# Altium footprint library PinHeader.PcbLib: 118 footprints (part 2 of 8)
Each footprint in its own frame and in the unit in brackets; x right, y up, seen from the top. Pads: shape width x height; smd on the part's side, far side on the other; paste and mask are expansions set on the pad; w line width, h text height; cw(c..) or ccw(c..) is an arc to the next point about the centre after c.
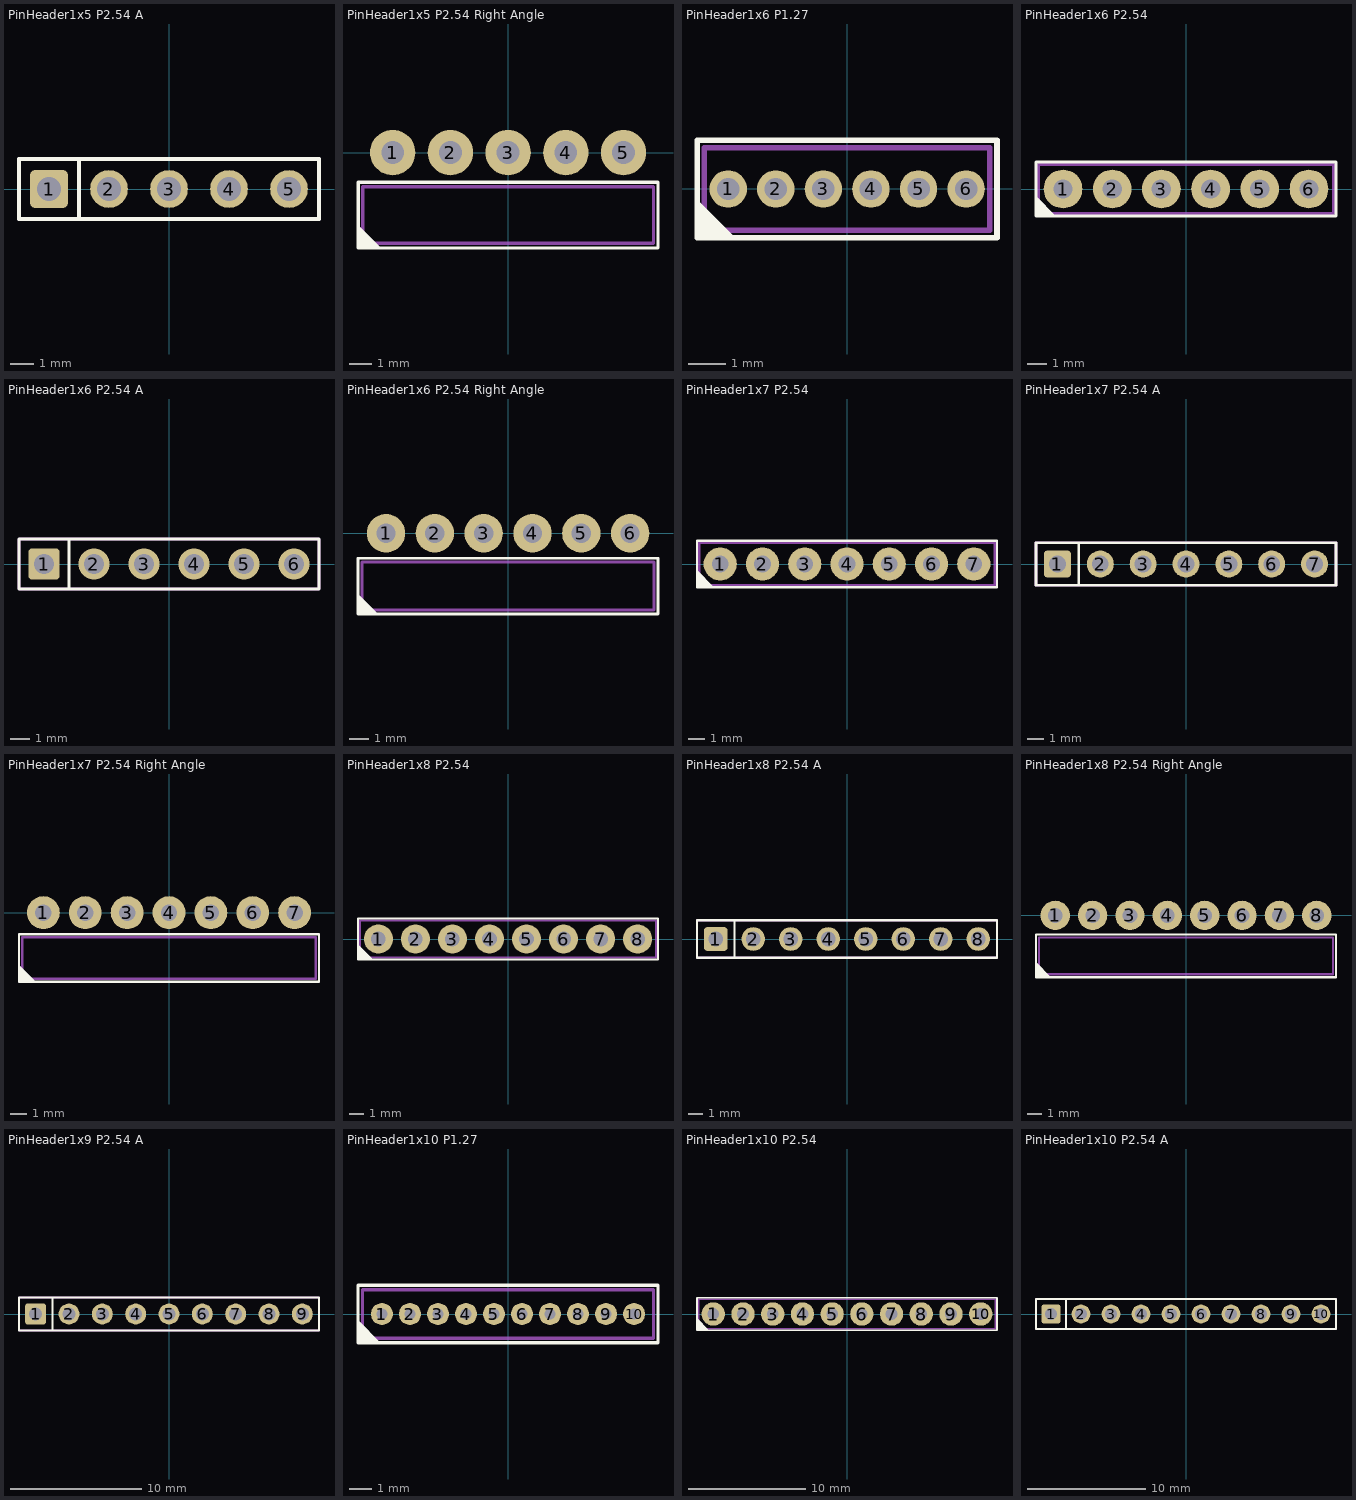
[diagram p1: the footprints below, top view; thin cyan lines are the x and y axes]

## PinHeader1x5 P2.54 A [mm] "Plug connector"
height 8.5
pads (5):
  rrect25% 1.6x1.6 hole 1: 1(-5.08,0)
  round 1.6 hole 1: 2(-2.54,0) 3(0,0) 4(2.54,0) 5(5.08,0)
Top Overlay:
  lines w0.15: -3.81,-1.27 -3.81,1.27 ; -6.35,-1.27 6.35,-1.27 6.35,1.27 -6.35,1.27 -6.35,-1.27
Mechanical 13:
  lines w0.15: -6.35,-1.27 -6.35,1.27 6.35,1.27 6.35,-1.27 -6.35,-1.27
3D body: height 8.5, standoff 2.6, extent -5.397,-0.318 5.397,0.318
3D body: height 2.5, standoff 0.1, extent -6.35,-1.27 6.35,1.27

## PinHeader1x5 P2.54 Right Angle [mm] "Plug connector"
height 2.4
pads (5):
  round 2 hole 1: 1(-5.08,0) 2(-2.54,0) 3(0,0) 4(2.54,0) 5(5.08,0)
Top Overlay:
  region: -6.608,-4.208 -6.608,-3.192 -5.592,-4.208
  lines w0.15: -6.6,-4.2 -6.6,-1.3 6.6,-1.3 6.6,-4.2 -6.6,-4.2
Mechanical 13:
  lines w0.15: -6.4,-4 -6.4,-1.5 6.4,-1.5 6.4,-4 -6.4,-4
3D body: height 1.55, standoff -2.5, extent 2.24,-0.3 2.84,0.3
3D body: height 1.55, standoff 0.95, extent 2.24,-10 2.84,0
3D body: height 1.55, standoff 0.95, extent 4.78,-10 5.38,0
3D body: height 1.55, standoff -2.5, extent 4.78,-0.3 5.38,0.3
3D body: height 1.55, standoff -2.5, extent -0.3,-0.3 0.3,0.3
3D body: height 1.55, standoff 0.95, extent -0.3,-10 0.3,0
3D body: height 1.55, standoff -2.5, extent -5.38,-0.3 -4.78,0.3
3D body: height 2.4, standoff 0, extent -6.4,-4 6.4,-1.5
3D body: height 1.55, standoff 0.95, extent -5.38,-10 -4.78,0
3D body: height 1.55, standoff 0.95, extent -2.84,-10 -2.24,0
3D body: height 1.55, standoff -2.5, extent -2.84,-0.3 -2.24,0.3

## PinHeader1x6 P1.27 [mm] "Plug connector"
height 4
pads (6):
  round 1 hole 0.6: 1(-3.175,0) 2(-1.905,0) 3(-0.635,0) 4(0.635,0) 5(1.905,0) 6(3.175,0)
Top Overlay:
  region: -4.008,-1.3 -4.008,-0.284 -2.992,-1.3
  lines w0.15: -4,-1.3 4,-1.3 4,1.3 -4,1.3 -4,-1.3
Mechanical 13:
  lines w0.15: -3.81,-1.1 -3.81,1.1 3.811,1.1 3.811,-1.1 -3.81,-1.1
3D body: height 1, standoff 0, extent -3.81,-1.1 3.811,1.1
3D body: height 4, standoff -2.3, extent -3.375,-0.2 -2.975,0.2
3D body: height 4, standoff -2.3, extent -2.105,-0.2 -1.705,0.2
3D body: height 4, standoff -2.3, extent -0.835,-0.2 -0.435,0.2
3D body: height 4, standoff -2.3, extent 0.435,-0.2 0.835,0.2
3D body: height 4, standoff -2.3, extent 1.705,-0.2 2.105,0.2
3D body: height 4, standoff -2.3, extent 2.975,-0.2 3.375,0.2

## PinHeader1x6 P2.54 [mm] "Plug connector"
height 8.5
pads (6):
  round 2 hole 1: 1(-6.35,0) 2(-3.81,0) 3(-1.27,0) 4(1.27,0) 5(3.81,0) 6(6.35,0)
Top Overlay:
  region: -7.747,-1.397 -7.747,-0.381 -6.731,-1.397
  lines w0.15: -7.747,-1.397 -7.747,1.397 7.747,1.397 7.747,-1.397 -7.747,-1.397
Mechanical 13:
  lines w0.15: -7.62,-1.27 7.62,-1.27 7.62,1.27 -7.62,1.27 -7.62,-1.27
3D body: height 2.54, standoff 0, extent -7.62,-1.27 7.62,1.27
3D body: height 8.5, standoff -2.5, extent -6.73,-0.38 -5.97,0.38
3D body: height 8.5, standoff -2.5, extent 3.43,-0.38 4.191,0.38
3D body: height 8.5, standoff -2.5, extent -4.19,-0.38 -3.43,0.38
3D body: height 8.5, standoff -2.5, extent -1.65,-0.38 -0.889,0.38
3D body: height 8.5, standoff -2.5, extent 0.89,-0.38 1.651,0.38
3D body: height 8.5, standoff -2.5, extent 5.97,-0.38 6.731,0.38

## PinHeader1x6 P2.54 A [mm] "Plug connector"
height 8.5
pads (6):
  rrect25% 1.6x1.6 hole 1: 1(-6.35,0)
  round 1.6 hole 1: 2(-3.81,0) 3(-1.27,0) 4(1.27,0) 5(3.81,0) 6(6.35,0)
Top Overlay:
  lines w0.15: -5.08,-1.27 -5.08,1.27 ; -7.62,-1.27 7.62,-1.27 7.62,1.27 -7.62,1.27 -7.62,-1.27
Mechanical 13:
  lines w0.15: -7.62,-1.27 -7.62,1.27 7.62,1.27 7.62,-1.27 -7.62,-1.27
3D body: height 8.5, standoff 2.6, extent -6.667,-0.318 6.667,0.318
3D body: height 2.5, standoff 0.1, extent -7.62,-1.27 7.62,1.27

## PinHeader1x6 P2.54 Right Angle [mm] "Plug connector"
height 2.4
pads (6):
  round 2 hole 1: 1(-6.35,0) 2(-3.81,0) 3(-1.27,0) 4(1.27,0) 5(3.81,0) 6(6.35,0)
Top Overlay:
  region: -7.808,-4.2 -7.808,-3.184 -6.792,-4.2
  lines w0.15: -7.8,-4.2 7.8,-4.2 7.8,-1.3 -7.8,-1.3 -7.8,-4.2
Mechanical 13:
  lines w0.15: -7.6,-4 7.6,-4 7.6,-1.5 -7.6,-1.5 -7.6,-4
3D body: height 1.55, standoff -2.5, extent 0.97,-0.3 1.57,0.3
3D body: height 1.55, standoff 0.95, extent 0.97,-10 1.57,0
3D body: height 1.55, standoff -2.5, extent 6.05,-0.3 6.65,0.3
3D body: height 1.55, standoff 0.95, extent 6.05,-10 6.65,0
3D body: height 1.55, standoff 0.95, extent 3.51,-10 4.11,0
3D body: height 1.55, standoff -2.5, extent 3.51,-0.3 4.11,0.3
3D body: height 1.55, standoff -2.5, extent -4.11,-0.3 -3.51,0.3
3D body: height 1.55, standoff 0.95, extent -4.11,-10 -3.51,0
3D body: height 1.55, standoff 0.95, extent -6.65,-10 -6.05,0
3D body: height 2.4, standoff 0, extent -7.6,-4 7.6,-1.5
3D body: height 1.55, standoff -2.5, extent -6.65,-0.3 -6.05,0.3
3D body: height 1.55, standoff 0.95, extent -1.57,-10 -0.97,0
3D body: height 1.55, standoff -2.5, extent -1.57,-0.3 -0.97,0.3

## PinHeader1x7 P2.54 [mm] "Plug connector"
height 8.5
pads (7):
  round 2 hole 1: 1(-7.62,0) 2(-5.08,0) 3(-2.54,0) 4(0,0) 5(2.54,0) 6(5.08,0) 7(7.62,0)
Top Overlay:
  region: -9.017,-1.397 -9.017,-0.381 -8.001,-1.397
  lines w0.15: -9.017,-1.397 -9.017,1.397 9.017,1.397 9.017,-1.397 -9.017,-1.397
Mechanical 13:
  lines w0.15: -8.89,-1.27 8.89,-1.27 8.89,1.27 -8.89,1.27 -8.89,-1.27
3D body: height 8.5, standoff -2.5, extent 7.24,-0.38 8.001,0.38
3D body: height 2.54, standoff 0, extent -8.89,-1.27 8.89,1.27
3D body: height 8.5, standoff -2.5, extent -8,-0.38 -7.24,0.38
3D body: height 8.5, standoff -2.5, extent 2.16,-0.38 2.921,0.38
3D body: height 8.5, standoff -2.5, extent -5.46,-0.38 -4.7,0.38
3D body: height 8.5, standoff -2.5, extent -2.92,-0.38 -2.159,0.38
3D body: height 8.5, standoff -2.5, extent -0.38,-0.38 0.381,0.381
3D body: height 8.5, standoff -2.5, extent 4.7,-0.38 5.461,0.38

## PinHeader1x7 P2.54 A [mm] "Plug connector"
height 8.5
pads (7):
  rrect25% 1.6x1.6 hole 1: 1(-7.62,0)
  round 1.6 hole 1: 2(-5.08,0) 3(-2.54,0) 4(0,0) 5(2.54,0) 6(5.08,0) 7(7.62,0)
Top Overlay:
  lines w0.15: -6.35,-1.27 -6.35,1.27 ; -8.89,-1.27 -8.89,1.27 8.89,1.27 8.89,-1.27 -8.89,-1.27
Mechanical 13:
  lines w0.15: -8.89,-1.27 8.89,-1.27 8.89,1.27 -8.89,1.27 -8.89,-1.27
3D body: height 2.5, standoff 0.1, extent -8.89,-1.27 8.89,1.27
3D body: height 8.5, standoff 2.6, extent -7.938,-0.318 7.938,0.318

## PinHeader1x7 P2.54 Right Angle [mm] "Plug connector"
height 2.4
pads (7):
  round 2 hole 1: 1(-7.62,0) 2(-5.08,0) 3(-2.54,0) 4(0,0) 5(2.54,0) 6(5.08,0) 7(7.62,0)
Top Overlay:
  region: -9.1,-4.2 -9.1,-3.184 -8.084,-4.2
  lines w0.15: -9.1,-4.2 9.1,-4.2 9.1,-1.3 -9.1,-1.3 -9.1,-4.2
Mechanical 13:
  lines w0.15: -8.9,-4 8.9,-4 8.9,-1.5 -8.9,-1.5 -8.9,-4
3D body: height 1.55, standoff -2.5, extent 2.24,-0.3 2.84,0.3
3D body: height 1.55, standoff 0.95, extent 2.24,-10 2.84,0
3D body: height 1.55, standoff -2.5, extent 7.32,-0.3 7.92,0.3
3D body: height 1.55, standoff 0.95, extent 7.32,-10 7.92,0
3D body: height 1.55, standoff 0.95, extent 4.78,-10 5.38,0
3D body: height 1.55, standoff -2.5, extent 4.78,-0.3 5.38,0.3
3D body: height 1.55, standoff -2.5, extent -0.3,-0.3 0.3,0.3
3D body: height 1.55, standoff 0.95, extent -0.3,-10 0.3,0
3D body: height 1.55, standoff -2.5, extent -5.38,-0.3 -4.78,0.3
3D body: height 1.55, standoff 0.95, extent -5.38,-10 -4.78,0
3D body: height 1.55, standoff 0.95, extent -7.92,-10 -7.32,0
3D body: height 2.4, standoff 0, extent -8.9,-4 8.9,-1.5
3D body: height 1.55, standoff -2.5, extent -7.92,-0.3 -7.32,0.3
3D body: height 1.55, standoff 0.95, extent -2.84,-10 -2.24,0
3D body: height 1.55, standoff -2.5, extent -2.84,-0.3 -2.24,0.3

## PinHeader1x8 P2.54 [mm] "Plug connector"
height 8.5
pads (8):
  round 2 hole 1: 1(-8.89,0) 2(-6.35,0) 3(-3.81,0) 4(-1.27,0) 5(1.27,0) 6(3.81,0) 7(6.35,0) 8(8.89,0)
Top Overlay:
  region: -10.287,-1.397 -10.287,-0.381 -9.271,-1.397
  lines w0.15: -10.287,-1.397 10.287,-1.397 10.287,1.397 -10.287,1.397 -10.287,-1.397
Mechanical 13:
  lines w0.15: -10.16,-1.27 -10.16,1.27 10.16,1.27 10.16,-1.27 -10.16,-1.27
3D body: height 8.5, standoff -2.5, extent 3.43,-0.38 4.191,0.38
3D body: height 8.5, standoff -2.5, extent -1.65,-0.38 -0.889,0.38
3D body: height 8.5, standoff -2.5, extent -4.19,-0.38 -3.429,0.38
3D body: height 8.5, standoff -2.5, extent -6.73,-0.38 -5.97,0.38
3D body: height 8.5, standoff -2.5, extent 0.89,-0.38 1.651,0.38
3D body: height 8.5, standoff -2.5, extent -9.27,-0.38 -8.51,0.38
3D body: height 2.54, standoff 0, extent -10.16,-1.27 10.16,1.27
3D body: height 8.5, standoff -2.5, extent 5.97,-0.38 6.731,0.38
3D body: height 8.5, standoff -2.5, extent 8.51,-0.38 9.271,0.38

## PinHeader1x8 P2.54 A [mm] "Plug connector"
height 8.5
pads (8):
  rrect25% 1.6x1.6 hole 1: 1(-8.89,0)
  round 1.6 hole 1: 2(-6.35,0) 3(-3.81,0) 4(-1.27,0) 5(1.27,0) 6(3.81,0) 7(6.35,0) 8(8.89,0)
Top Overlay:
  lines w0.15: -7.62,-1.27 -7.62,1.27 ; -10.16,-1.27 -10.16,1.27 10.16,1.27 10.16,-1.27 -10.16,-1.27
Mechanical 13:
  lines w0.15: -10.16,-1.27 10.16,-1.27 10.16,1.27 -10.16,1.27 -10.16,-1.27
3D body: height 2.5, standoff 0.1, extent -10.16,-1.27 10.16,1.27
3D body: height 8.5, standoff 2.6, extent -9.207,-0.318 9.207,0.318

## PinHeader1x8 P2.54 Right Angle [mm] "Plug connector"
height 2.4
pads (8):
  round 2 hole 1: 1(-8.89,0) 2(-6.35,0) 3(-3.81,0) 4(-1.27,0) 5(1.27,0) 6(3.81,0) 7(6.35,0) 8(8.89,0)
Top Overlay:
  region: -10.2,-4.208 -10.2,-3.192 -9.184,-4.208
  lines w0.15: -10.2,-4.2 -10.2,-1.3 10.2,-1.3 10.2,-4.2 -10.2,-4.2
Mechanical 13:
  lines w0.15: -10,-4 -10,-1.5 10,-1.5 10,-4 -10,-4
3D body: height 1.55, standoff -2.5, extent -4.11,-0.3 -3.51,0.3
3D body: height 1.55, standoff 0.95, extent -4.11,-10 -3.51,0
3D body: height 1.55, standoff -2.5, extent -9.19,-0.3 -8.59,0.3
3D body: height 2.4, standoff 0, extent -10,-4 10,-1.5
3D body: height 1.55, standoff 0.95, extent -9.19,-10 -8.59,0
3D body: height 1.55, standoff 0.95, extent -6.65,-10 -6.05,0
3D body: height 1.55, standoff -2.5, extent -6.65,-0.3 -6.05,0.3
3D body: height 1.55, standoff -2.5, extent 0.97,-0.3 1.57,0.3
3D body: height 1.55, standoff 0.95, extent 0.97,-10 1.57,0
3D body: height 1.55, standoff 0.95, extent 3.51,-10 4.11,0
3D body: height 1.55, standoff -2.5, extent 3.51,-0.3 4.11,0.3
3D body: height 1.55, standoff 0.95, extent -1.57,-10 -0.97,0
3D body: height 1.55, standoff -2.5, extent -1.57,-0.3 -0.97,0.3
3D body: height 1.55, standoff -2.5, extent 6.05,-0.3 6.65,0.3
3D body: height 1.55, standoff 0.95, extent 6.05,-10 6.65,0
3D body: height 1.55, standoff 0.95, extent 8.59,-10 9.19,0
3D body: height 1.55, standoff -2.5, extent 8.59,-0.3 9.19,0.3

## PinHeader1x9 P2.54 A [mm] "Plug connector"
height 8.5
pads (9):
  rrect25% 1.6x1.6 hole 1: 1(-10.16,0)
  round 1.6 hole 1: 2(-7.62,0) 3(-5.08,0) 4(-2.54,0) 5(0,0) 6(2.54,0) 7(5.08,0) 8(7.62,0) 9(10.16,0)
Top Overlay:
  lines w0.15: -8.89,-1.27 -8.89,1.27 ; -11.43,-1.27 -11.43,1.27 11.43,1.27 11.43,-1.27 -11.43,-1.27
Mechanical 13:
  lines w0.15: -11.43,-1.27 11.43,-1.27 11.43,1.27 -11.43,1.27 -11.43,-1.27
3D body: height 2.5, standoff 0.1, extent -11.43,-1.27 11.43,1.27
3D body: height 8.5, standoff 2.6, extent -10.477,-0.318 10.477,0.318

## PinHeader1x10 P1.27 [mm] "Plug connector"
height 5.2
pads (10):
  round 1 hole 0.5: 1(-5.715,0) 2(-4.445,0) 3(-3.175,0) 4(-1.905,0) 5(-0.635,0) 6(0.635,0) 7(1.905,0) 8(3.175,0) 9(4.445,0) 10(5.715,0)
Top Overlay:
  region: -6.8,-1.3 -6.8,-0.284 -5.784,-1.3
  lines w0.15: -6.8,-1.3 6.8,-1.3 6.8,1.3 -6.8,1.3 -6.8,-1.3
Mechanical 13:
  lines w0.15: -6.6,-1.1 -6.6,1.1 6.6,1.1 6.6,-1.1 -6.6,-1.1
3D body "pcb_connector_850-80-010-10-001101.stp": height 5.2, standoff -2.9, extent -6.555,-1.1 6.555,1.1

## PinHeader1x10 P2.54 [mm] "Plug connector"
height 8.5
pads (10):
  round 2 hole 1: 1(-11.43,0) 2(-8.89,0) 3(-6.35,0) 4(-3.81,0) 5(-1.27,0) 6(1.27,0) 7(3.81,0) 8(6.35,0) 9(8.89,0) 10(11.43,0)
Top Overlay:
  region: -12.827,-1.397 -12.827,-0.381 -11.811,-1.397
  lines w0.15: -12.827,-1.397 12.827,-1.397 12.827,1.397 -12.827,1.397 -12.827,-1.397
Mechanical 13:
  lines w0.15: -12.7,-1.27 -12.7,1.27 12.7,1.27 12.7,-1.27 -12.7,-1.27
3D body: height 8.5, standoff -2.5, extent 0.89,-0.38 1.651,0.38
3D body: height 8.5, standoff -2.5, extent -4.19,-0.38 -3.429,0.38
3D body: height 8.5, standoff -2.5, extent -6.73,-0.38 -5.969,0.38
3D body: height 8.5, standoff -2.5, extent -9.27,-0.38 -8.51,0.38
3D body: height 8.5, standoff -2.5, extent -1.65,-0.38 -0.889,0.38
3D body: height 8.5, standoff -2.5, extent -11.81,-0.38 -11.05,0.38
3D body: height 2.54, standoff 0, extent -12.7,-1.27 12.7,1.27
3D body: height 8.5, standoff -2.5, extent 8.51,-0.38 9.271,0.38
3D body: height 8.5, standoff -2.5, extent 11.05,-0.38 11.811,0.38
3D body: height 8.5, standoff -2.5, extent 3.43,-0.38 4.191,0.38
3D body: height 8.5, standoff -2.5, extent 5.97,-0.38 6.731,0.38

## PinHeader1x10 P2.54 A [mm] "Plug connector"
height 8.5
pads (10):
  rrect25% 1.6x1.6 hole 1: 1(-11.43,0)
  round 1.6 hole 1: 2(-8.89,0) 3(-6.35,0) 4(-3.81,0) 5(-1.27,0) 6(1.27,0) 7(3.81,0) 8(6.35,0) 9(8.89,0) 10(11.43,0)
Top Overlay:
  lines w0.15: -10.16,-1.27 -10.16,1.27 ; -12.7,-1.27 -12.7,1.27 12.7,1.27 12.7,-1.27 -12.7,-1.27
Mechanical 13:
  lines w0.15: -12.7,-1.27 12.7,-1.27 12.7,1.27 -12.7,1.27 -12.7,-1.27
3D body: height 8.5, standoff 2.6, extent -11.747,-0.318 11.747,0.318
3D body: height 2.5, standoff 0.1, extent -12.7,-1.27 12.7,1.27